# Altium footprint library Swıtch.PcbLib: 2 footprints
Each footprint in its own frame and in the unit in brackets; x right, y up, seen from the top. Pads: shape width x height; smd on the part's side, far side on the other; paste and mask are expansions set on the pad; w line width, h text height; cw(c..) or ccw(c..) is an arc to the next point about the centre after c.
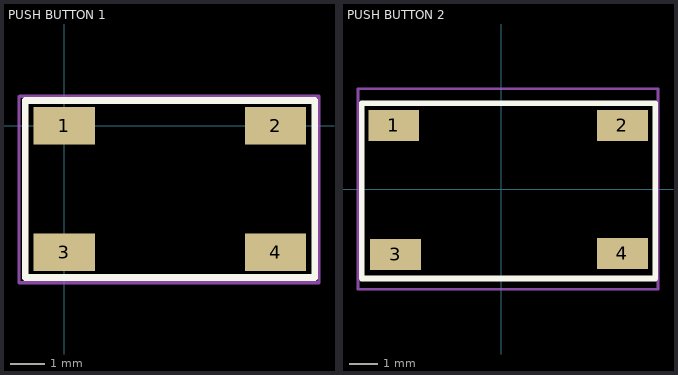
[diagram p0: the footprints below, top view; thin cyan lines are the x and y axes]

## PUSH BUTTON 1 [mm]
pads (4):
  rect 1.8x1.1 smd mask+0.05: 1(0,0) 2(6.2,0) 3(0,-3.7) 4(6.2,-3.7)
Top Overlay:
  lines w0.2: -1.143,-4.445 7.35,-4.445 7.35,0.75 -1.143,0.75 -1.143,-4.445
Mechanical 3:
  lines w0.1: -1.325,-4.6 7.475,-4.6 7.475,0.875 -1.3,0.875 -1.325,0.85 -1.325,-4.6
3D body "User Library-4x4_SMD_Switch.step": height 1.5, standoff 0, extent -0.2,-4.5 6.2,0.7

## PUSH BUTTON 2 [mm]
pads (4):
  rect 1.8x1.1 smd mask+0.05: 1(-3.81,2.254) 2(4.3,2.254) 3(-3.748,-2.322) 4(4.3,-2.286)
Top Overlay:
  lines w0.2: -4.953,-3.175 -4.953,3.048 5.461,3.048 5.461,-3.175 -4.953,-3.175
Mechanical 15:
  lines w0.1: -5.08,-3.556 -5.08,3.302 -5.08,3.556 5.563,3.556 5.563,-3.556 -5.08,-3.556
3D body "User Library-KFC-A06-HA-4_3.STEP": height 4.3, standoff 0, extent -4.246,-3.048 4.754,2.952